# EAGLE library part WE-RJ45_74980100001 (library WE-RJ45_LAN)
WE-RJ45 LAN Through Hole Reflow Characteristics RJ45 designed to use for Pin-in-Paste soldering High mechanical stability through THT pins High Temperature LEDs Extra high standoff for a good thermal airflow Power over Ethernet up to 30 W Compliant with standard: IEEE 802.3u, IEEE 802.3ab, IEEE 802.3af, IEEE 802.3at Applications Suitable for industrial temperatures from –40 °C up to +85 °C Compatible to Industrial Ethernet systems like EtherCAT or Profinet Compliant with most IC’s for Ethernet applications such as Microchip, Texas Instruments, Broadcom, Linear Technology Hubs, Routers, Switches, IP cameras, IoT applications Details see: www.we-online.com/components/products/WE-LAN-RJ45_THR Created by Ella Wu 2022-12-16 2022 (C) Würth Elektronik
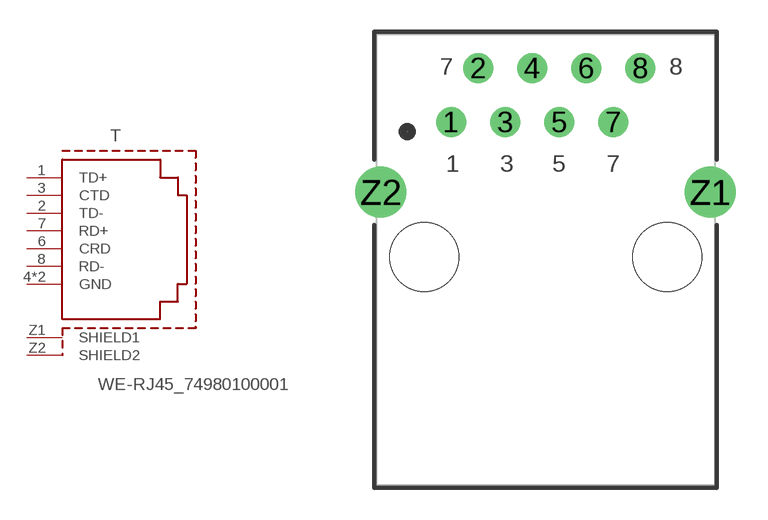
[diagram p90: symbol with the pads of 74980100001; footprint 74980100001]

Designator prefix T

## WE-RJ45_74980100001 (DATA-RATE: 10/100BASE-TX; DATASHEET: https://www.we-online.com/redexpert/spec/74980100001?ae; IMPROVED-CMRR: No; LED: -; MOUNT: THR; OPERATING-TEMPERATURE: -40 °C up to +85 °C; PART-NUMBER: 74980100001; PHY-CHIP-MODE: current & voltage; POE: non-PoE; PORTS: 1; SHIELD-TABS: No; TAB: Down; USB: No; VALUE: 74980100001)  [74980100001]
1  TD+  pas
2  TD-  pas
3  CTD  pas
4  GND  pas
5  GND  pas
6  CRD  pas
7  RD+  pas
8  RD-  pas
Z1  SHIELD1  pas
Z2  SHIELD2  pas

## Footprint 74980100001 (pad centres in mm)
WE-RJ45 LAN Through Hole Reflow 10/100BASE-TX, Ports:1, Tab:Down
drill 0.9: 1 -4.445,6.35; 2 -3.175,8.89; 3 -1.905,6.35; 4 -0.635,8.89; 5 0.635,6.35; 6 1.905,8.89; 7 3.175,6.35; 8 4.445,8.89
drill 1.6: Z1 7.745,3.05; Z2 -7.745,3.05
hole 3.25 at 5.715,0
hole 3.25 at -5.715,0